# Altium footprint library SW_Tactile_6x6_TH_180D_A43.PcbLib: 1 footprints
Each footprint in its own frame and in the unit in brackets; x right, y up, seen from the top. Pads: shape width x height; smd on the part's side, far side on the other; paste and mask are expansions set on the pad; w line width, h text height; cw(c..) or ccw(c..) is an arc to the next point about the centre after c.
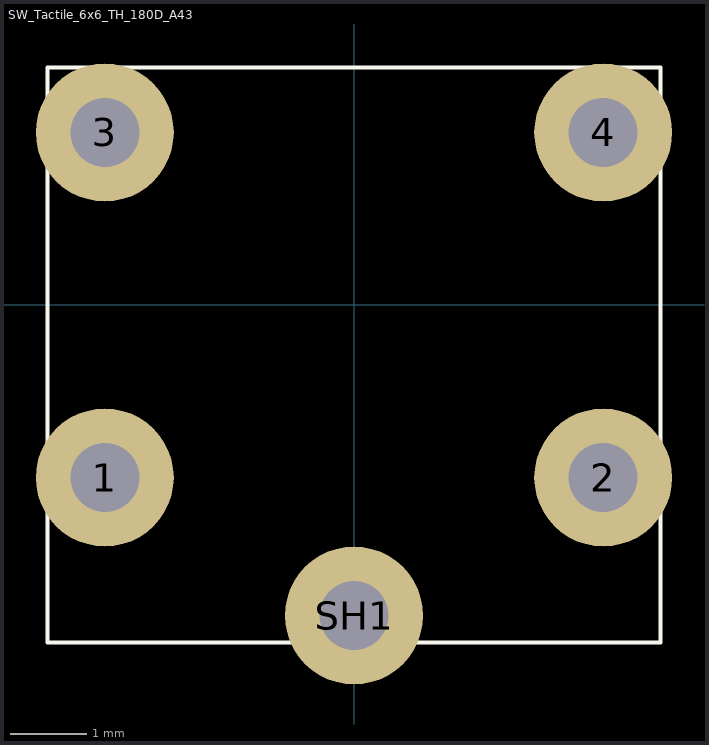
[diagram p0: the footprint, top view; thin cyan lines are the x and y axes]

## SW_Tactile_6x6_TH_180D_A43 [mm] "Tactile switch 6x6mm Horizontal ESD Actuator 43mm from PCB"
pads (5):
  round 1.8 hole 0.9: 1(-3.25,-2.25) 2(3.25,-2.25) 3(-3.25,2.25) 4(3.25,2.25) SH1(0,-4.05)
Top Overlay:
  lines w0.051: -4,-4.4 1.643,-4.4 4,-4.4 4,3.1 -4,3.1 -4,-4.4
3D body: height 4.3, standoff -3.5, extent -3.85,-4.325 3.85,2.9